# EAGLE library part L6207 (library everykey)
Stepper / dual bridge driver
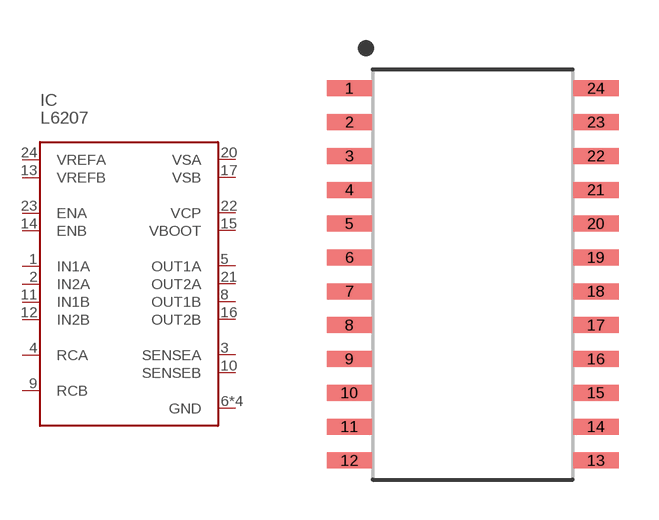
[diagram p84: symbol with the pads of SO24-7.5-1.27; footprint SO24-7.5-1.27]

Designator prefix IC

## L6207-SO24  [SO24-7.5-1.27]
1  IN1A  in
2  IN2A  in
3  SENSEA  in
4  RCA
5  OUT1A  out
6  GND  pwr
7  GND  pwr
8  OUT1B  out
9  RCB
10  SENSEB  in
11  IN1B  in
12  IN2B  in
13  VREFB  in
14  ENB  in
15  VBOOT  pas
16  OUT2B  out
17  VSB  pwr
18  GND  pwr
19  GND  pwr
20  VSA  pwr
21  OUT2A  out
22  VCP  pas
23  ENA  in
24  VREFA  in

## Footprint SO24-7.5-1.27 (pad centres in mm)
SO24 package, 7.5mm body width, 1.27mm pitch
smd 1.7 x 0.6: 1 -4.625,6.985; 2 -4.625,5.715; 3 -4.625,4.445; 4 -4.625,3.175; 5 -4.625,1.905; 6 -4.625,0.635; 7 -4.625,-0.635; 8 -4.625,-1.905; 9 -4.625,-3.175; 10 -4.625,-4.445; 11 -4.625,-5.715; 12 -4.625,-6.985; 13 4.625,-6.985; 14 4.625,-5.715; 15 4.625,-4.445; 16 4.625,-3.175; 17 4.625,-1.905; 18 4.625,-0.635; 19 4.625,0.635; 20 4.625,1.905; 21 4.625,3.175; 22 4.625,4.445; 23 4.625,5.715; 24 4.625,6.985